# Altium schematic symbol library AltiumDesigner.SchLib: 2 symbols
Pins are listed as number, name and electrical type; pins without a type are passive.

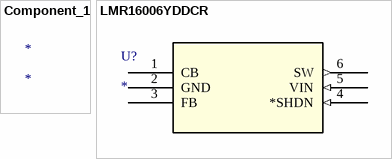
[diagram p0: symbols Component_1 to LMR16006YDDCR]

## Component_1
designator *

## LMR16006YDDCR
designator U?
Imported; Manufacturer_Part_Number: LMR16006YDDCR; Vendor: Texas Instruments; Built_By: EMA_UL_Team; C: Copyright (C) 2016 Accelerated Designs. All rights reserved; RefDes: RefDes; Type: DEV; Value: Value
footprint DDC6
pins: 1 CB, 2 GND (power), 3 FB, 4 *SHDN (in), 5 VIN (in), 6 SW (out)